# Altium schematic symbol library montaje.SchLib: 6 symbols
Pins are listed as number, name and electrical type; pins without a type are passive.

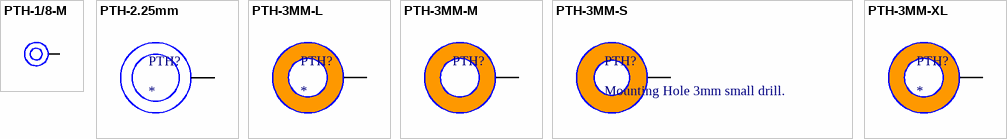
[diagram p0: symbols PTH-1/8-M to PTH-3MM-XL]

## PTH-1/8-M
designator *  (value not drawn)
Category: Mounting Hole; Temperature Max: -; Temperature Min: *
footprint PTH_1/8_M
pins: 1

## PTH-2.25mm
designator PTH?
Plated Hole 2,25mm; Category: Mounting Hole; Temperature Max: -; Temperature Min: -
pins: 1

## PTH-3MM-L
designator PTH?
Agujero de montaje metalizado roscas M3. Drill de tamaño grande.; Category: Mounting Hole; Temperature Max: -; Temperature Min: -
footprint PTH_M3_L
pins: 1

## PTH-3MM-M
designator PTH?  (value not drawn)
Agujero de montaje metalizado roscas M3. Drill de tamaño medio.; Category: Mounting Hole; Temperature Max: -; Temperature Min: -
footprint PTH_M3_M
pins: 1

## PTH-3MM-S
designator PTH?, comment Mounting Hole 3mm small drill.
Mounting Hole 3mm. Drill 3 mm. Out diameter 6mm; Category: Mounting Hole; Temperature Max: -; Temperature Min: -
footprint PTH_M3_S
pins: 1

## PTH-3MM-XL
designator PTH?
Agujero de montaje metalizado roscas M3. Drill de tamaño grande, maxima capacidad de ajuste, minima pizada de tornillo.; Category: Mounting Hole; Temperature Max: -; Temperature Min: -
footprint PTH_M3_XL
pins: 1